# EAGLE library part M101 (library dec-r)
Bus Data Interface The M101 contains 15 two-input NAND gates. One input of each gate is tied to a common line so that all data signals can be enabled simultaneously. Each data signal presents one TTL load. The common input presents 15 loads. Each output can drive 10 loads. Power: 5V@82ma (max.)
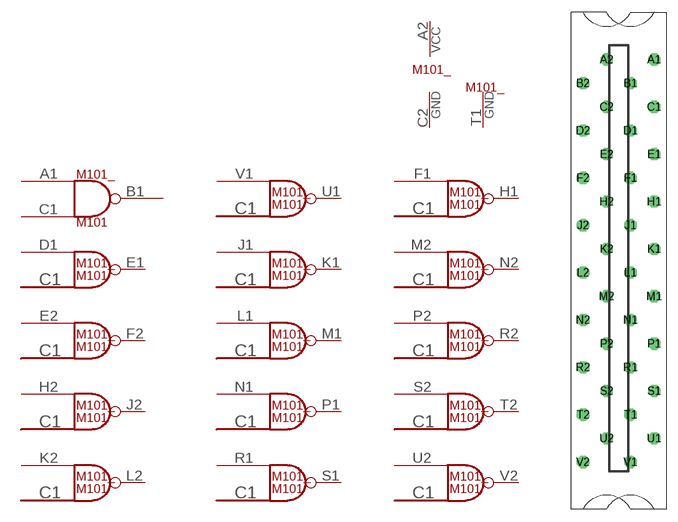
[diagram p0: symbol with the pads of H807; footprint H807]

Designator prefix M101_; gates E1=NAND1 H1=NAND1 K1=NAND1 M1=NAND1 P1=NAND1 S1=NAND1 U1=NAND1 F2=NAND1 J2=NAND1 L2=NAND1 N2=NAND1 R2=NAND1 T2=NAND1 V2=NAND1 G$16=POWER B1=NAND2 G$1=T1GND

## M101  [H807]
A1  B1:IN1  in
A2  G$16:VCC  pwr
B1  B1:OUT  out
C1  B1:IN2  in
C2  G$16:GND  pwr
D1  E1:IN  in
E1  E1:OUT  out
E2  F2:IN  in
F1  H1:IN  in
F2  F2:OUT  out
H1  H1:OUT  out
H2  J2:IN  in
J1  K1:IN  in
J2  J2:OUT  out
K1  K1:OUT  out
K2  L2:IN  in
L1  M1:IN  in
L2  L2:OUT  out
M1  M1:OUT  out
M2  N2:IN  in
N1  P1:IN  in
N2  N2:OUT  out
P1  P1:OUT  out
P2  R2:IN  in
R1  S1:IN  in
R2  R2:OUT  out
S1  S1:OUT  out
S2  T2:IN  in
T1  G$1:GND  pwr
T2  T2:OUT  out
U1  U1:OUT  out
U2  V2:IN  in
V1  U1:IN  in
V2  V2:OUT  out

## Footprint H807 (pad centres in mm)
One-wide female edge connector
drill 1.092 octagon: A1 4.763,28.575; A2 -1.587,28.575; B1 1.587,25.4; B2 -4.763,25.4; C1 4.763,22.225; C2 -1.587,22.225; D1 1.587,19.05; D2 -4.763,19.05; E1 4.763,15.875; E2 -1.587,15.875; F1 1.587,12.7; F2 -4.763,12.7; H1 4.763,9.525; H2 -1.587,9.525; J1 1.587,6.35; J2 -4.763,6.35; K1 4.763,3.175; K2 -1.587,3.175; L1 1.587,0; L2 -4.763,0; M1 4.763,-3.175; M2 -1.587,-3.175; N1 1.587,-6.35; N2 -4.763,-6.35; P1 4.763,-9.525; P2 -1.587,-9.525; R1 1.587,-12.7; R2 -4.763,-12.7; S1 4.763,-15.875; S2 -1.587,-15.875; T1 1.587,-19.05; T2 -4.763,-19.05; U1 4.763,-22.225; U2 -1.587,-22.225; V1 1.587,-25.4; V2 -4.763,-25.4